# Altium schematic symbol library diodes.SchLib: 2 symbols
Pins are listed as number, name and electrical type; pins without a type are passive.

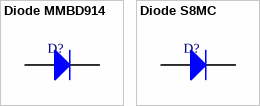
[diagram p0: symbols Diode MMBD914 to Diode S8MC]

## Diode MMBD914
designator D?  (value not drawn)
Standard Diode; Manufacturer Part No.: MMBD914LT1G; Vf: 1V; Imax: 200mA; Vreverse: 100V; Digi-Key Part No.: MMBD914LT1GOSCT-ND
footprint SOT-23 (Standard SOT-23)
pins: 1 A, 3 K

## Diode S8MC
designator D?  (value not drawn)
Standard Diode; Manufacturer Part No.: S8MC-13; Max Voltage: 1kV; Max Current: 8A; Digi-Key Part No.: S8MCDICT-ND
footprint S8MC Diode (S8MC 8A Diode)
pins: 1 A, 2 C